# Altium schematic symbol library motionboard.SchLib: 158 symbols (part 2 of 2)
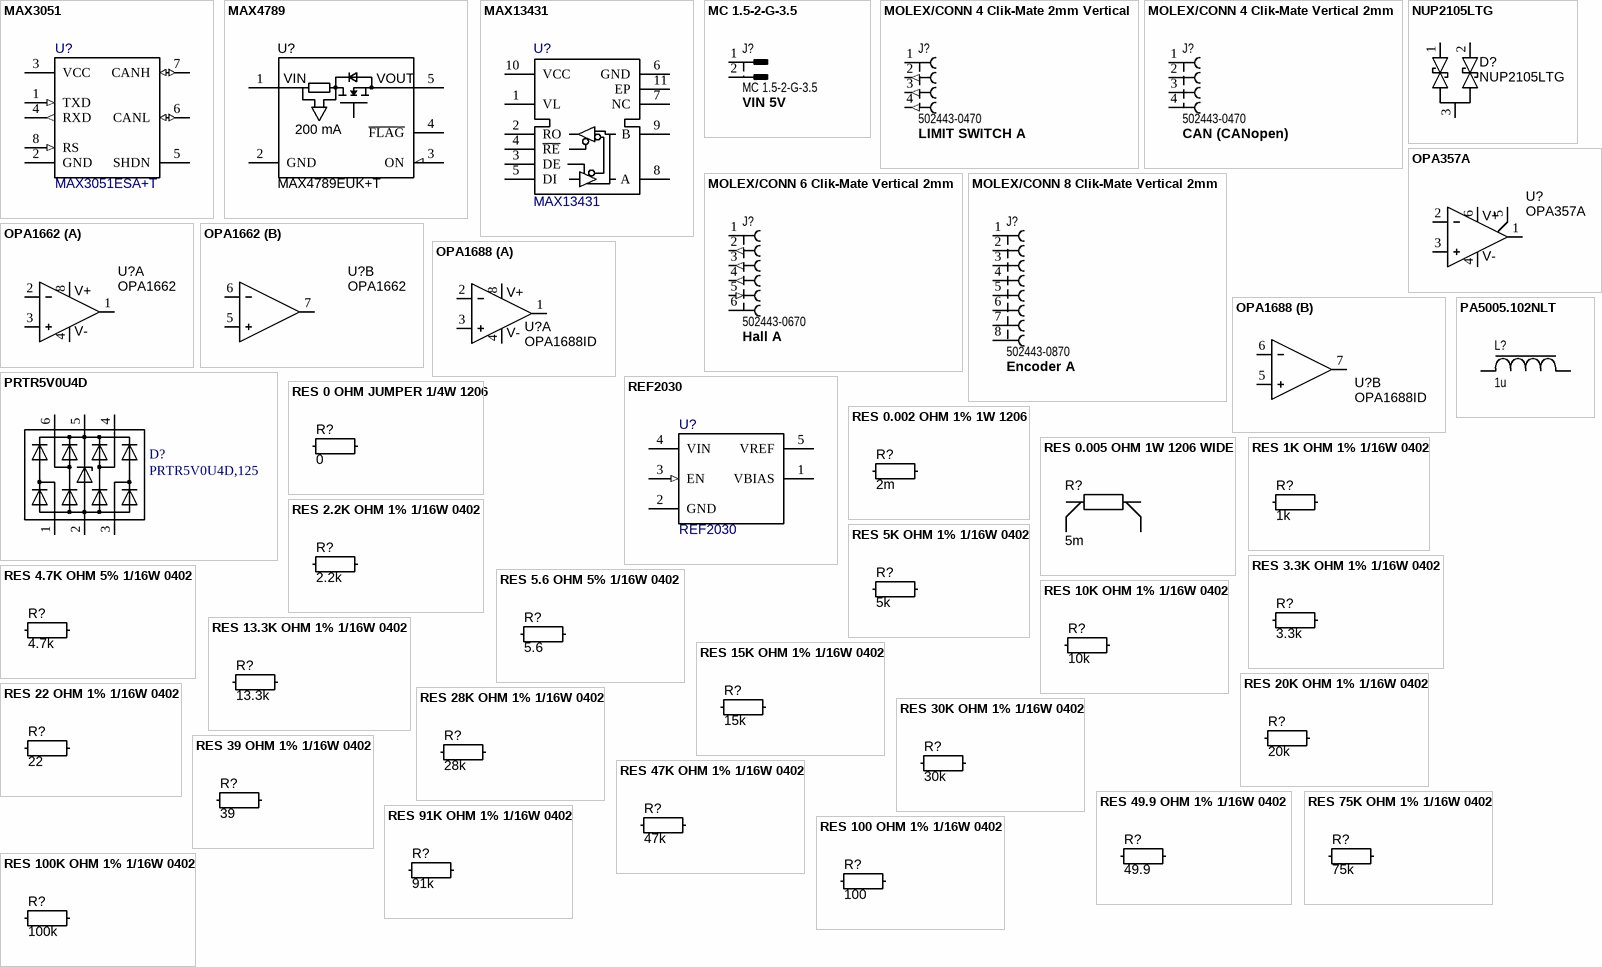
[diagram p7: symbols MAX3051 to RES 100K OHM 1% 1/16W 0402]

## RES 39 OHM 1% 1/16W 0402
designator R?, comment 39
39 Ohms ±1% 0.063W, 1/16W Chip Resistor 0402 (1005 Metric) Moisture Resistant Thick Film; Value: 1k; Supplier 1: Digi-Key; Supplier Part Number 1: 311-1.00KLRCT-ND
simulation model RES (Default semiconductor resistor)
footprint SM/R0402
pins: 1, 2

## RES 47K OHM 1% 1/16W 0402
designator R?, comment 47k
47 kOhms ±1% 0.063W, 1/16W Chip Resistor 0402 (1005 Metric) Moisture Resistant Thick Film; Supplier 1: Digi-Key; Supplier Part Number 1: 311-47.0KLRCT-ND; Value: 47k
simulation model RES (Default semiconductor resistor)
footprint SM/R0402 (Chip Resistor, 2-Leads, Body 1.00x0.50mm, IPC Medium Density)
pins: 1, 2

## RES 49.9 OHM 1% 1/16W 0402
designator R?, comment 49.9
49.9 Ohms ±1% 0.063W, 1/16W Chip Resistor 0402 (1005 Metric) Moisture Resistant Thick Film; Supplier 1: Digi-Key; Supplier Part Number 1: 311-49.9LRCT-ND; Value: 49.9
simulation model RES (Default semiconductor resistor)
footprint SM/R0402 (Chip Resistor, 2-Leads, Body 1.00x0.50mm, IPC Medium Density)
pins: 1, 2

## RES 75K OHM 1% 1/16W 0402
designator R?, comment 75k
75 kOhms ±1% 0.063W, 1/16W Chip Resistor 0402 (1005 Metric) Moisture Resistant Thick Film; Supplier 1: Digi-Key; Supplier Part Number 1: 311-75KLRCT-ND; Value: 75k
simulation model RES (Default semiconductor resistor)
footprint SM/R0402 (Chip Resistor, 2-Leads, Body 1.00x0.50mm, IPC Medium Density)
pins: 1, 2

## RES 91K OHM 1% 1/16W 0402
designator R?, comment 91k
91 kOhms ±1% 0.063W, 1/16W Chip Resistor 0402 (1005 Metric) Moisture Resistant Thick Film; Supplier 1: Digi-Key; Supplier Part Number 1: 311-91.0KLRCT-ND; Value: 91k
simulation model RES (Default semiconductor resistor)
footprint SM/R0402 (Chip Resistor, 2-Leads, Body 1.00x0.50mm, IPC Medium Density)
pins: 1, 2

## RES 100 OHM 1% 1/16W 0402
designator R?, comment 100
100 Ohms ±1% 0.063W, 1/16W Chip Resistor 0402 (1005 Metric) Moisture Resistant Thick Film; Supplier 1: Digi-Key; Supplier Part Number 1: 13-RC0402FR-13100RLCT-ND; Value: 100
simulation model RES (Default semiconductor resistor)
footprint SM/R0402 (Chip Resistor, 2-Leads, Body 1.00x0.50mm, IPC Medium Density)
pins: 1, 2

## RES 100K OHM 1% 1/16W 0402
designator R?, comment 100k
100 kOhms ±1% 0.063W, 1/16W Chip Resistor 0402 (1005 Metric) Moisture Resistant Thick Film; Supplier 1: Digi-Key; Supplier Part Number 1: 13-RC0402FR-13100KLCT-ND; Value: 100k
simulation model RES (Default semiconductor resistor)
footprint SM/R0805 (Chip Resistor, Body 2.0x1.3mm, IPC Low Density)
pins: 1, 2

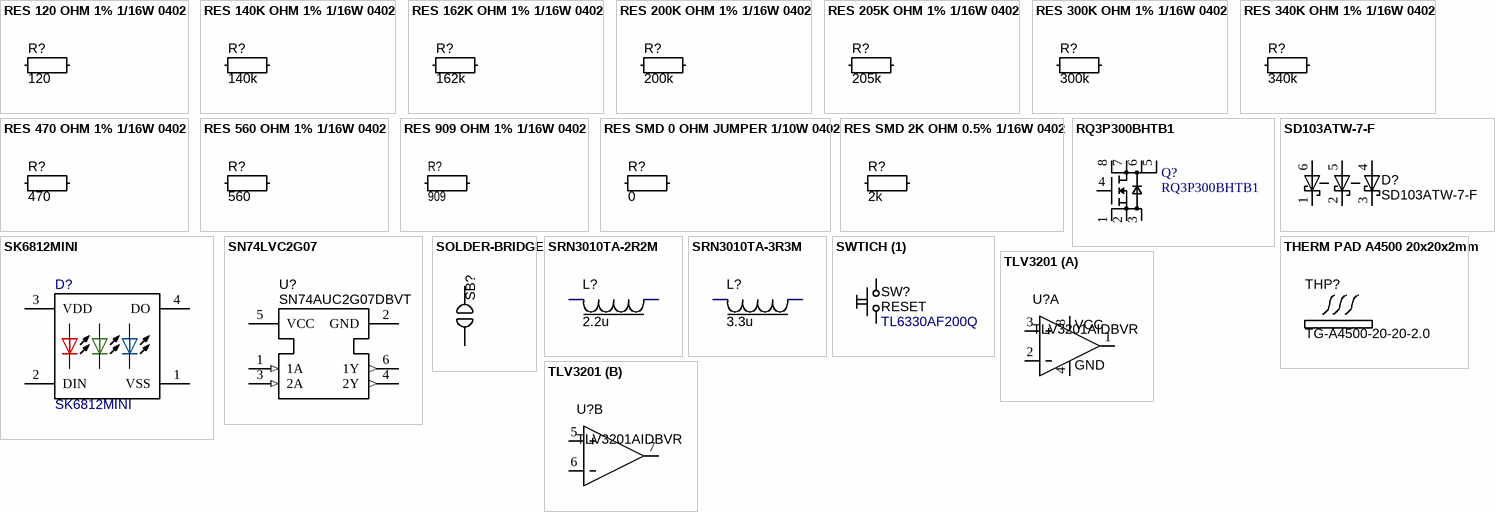
[diagram p4: symbols RES 120 OHM 1% 1/16W 0402 to TLV3201]

## RES 120 OHM 1% 1/16W 0402
designator R?, comment 120
120 Ohms ±1% 0.063W, 1/16W Chip Resistor 0402 (1005 Metric) Moisture Resistant Thick Film; Value: 120; Supplier 1: Digi-Key; Supplier Part Number 1: 311-120LRCT-ND
simulation model RES (Default semiconductor resistor)
footprint SM/R0402 (Chip Resistor, 2-Leads, Body 1.00x0.50mm, IPC Medium Density)
pins: 1, 2

## RES 140K OHM 1% 1/16W 0402
designator R?, comment 140k
140 kOhms ±1% 0.063W, 1/16W Chip Resistor 0402 (1005 Metric) Moisture Resistant Thick Film; Supplier 1: Digi-Key; Supplier Part Number 1: YAG2978CT-ND; Value: 140k
simulation model RES (Default semiconductor resistor)
footprint SM/R0402
pins: 1, 2

## RES 162K OHM 1% 1/16W 0402
designator R?, comment 162k
162 kOhms ±1% 0.063W, 1/16W Chip Resistor 0402 (1005 Metric) Moisture Resistant Thick Film; Value: 162k; Supplier 1: Digi-Key; Supplier Part Number 1: YAG2370CT-ND
simulation model RES (Default semiconductor resistor)
footprint SM/R0402 (Chip Resistor, 2-Leads, Body 1.00x0.50mm, IPC Medium Density)
pins: 1, 2

## RES 200K OHM 1% 1/16W 0402
designator R?, comment 200k
200 kOhms ±1% 0.063W, 1/16W Chip Resistor 0402 (1005 Metric) Moisture Resistant Thick Film; Value: 200k; Supplier 1: Digi-Key; Supplier Part Number 1: 311-200KLRCT-ND
simulation model RES (Default semiconductor resistor)
footprint SM/R0402 (Chip Resistor, 2-Leads, Body 1.00x0.50mm, IPC Medium Density)
pins: 1, 2

## RES 205K OHM 1% 1/16W 0402
designator R?, comment 205k
205 kOhms ±1% 0.063W, 1/16W Chip Resistor 0402 (1005 Metric) Moisture Resistant Thick Film; Value: 205k; Supplier 1: Digi-Key; Supplier Part Number 1: YAG3050CT-ND
simulation model RES (Default semiconductor resistor)
footprint SM/R0402 (Chip Resistor, 2-Leads, Body 1.00x0.50mm, IPC Medium Density)
pins: 1, 2

## RES 300K OHM 1% 1/16W 0402
designator R?, comment 300k
300 kOhms ±1% 0.063W, 1/16W Chip Resistor 0402 (1005 Metric) Moisture Resistant Thick Film; Value: 300k; Supplier 1: Digi-Key; Supplier Part Number 1: 311-300KLRCT-ND
simulation model RES (Default semiconductor resistor)
footprint SM/R0402 (Chip Resistor, 2-Leads, Body 1.00x0.50mm, IPC Medium Density)
pins: 1, 2

## RES 340K OHM 1% 1/16W 0402
designator R?, comment 340k
340 kOhms ±1% 0.063W, 1/16W Chip Resistor 0402 (1005 Metric) Moisture Resistant Thick Film; Value: 340k; Supplier 1: Digi-Key; Supplier Part Number 1: YAG3121CT-ND
simulation model RES (Default semiconductor resistor)
footprint SM/R0402 (Chip Resistor, 2-Leads, Body 1.00x0.50mm, IPC Medium Density)
pins: 1, 2

## RES 470 OHM 1% 1/16W 0402
designator R?, comment 470
470 Ohms ±1% 0.063W, 1/16W Chip Resistor 0402 (1005 Metric) Thick Film; Value: 470; Supplier 1: Digi-Key; Supplier Part Number 1: 13-RC0402FR-13470RLCT-ND
simulation model RES (Default semiconductor resistor)
footprint SM/R0402 (Chip Resistor, 2-Leads, Body 1.00x0.50mm, IPC Medium Density)
pins: 1, 2

## RES 560 OHM 1% 1/16W 0402
designator R?, comment 560
560 Ohms ±1% 0.063W, 1/16W Chip Resistor 0402 (1005 Metric) Thick Film; Value: 560; Supplier 1: Digi-Key; Supplier Part Number 1: 13-RC0402FR-13560RLCT-ND
simulation model RES (Default semiconductor resistor)
footprint SM/R0402 (Chip Resistor, 2-Leads, Body 1.00x0.50mm, IPC Medium Density)
pins: 1, 2

## RES 909 OHM 1% 1/16W 0402
designator R?, comment 909
909 Ohms ±1% 0.063W, 1/16W Chip Resistor 0402 (1005 Metric) Moisture Resistant Thick Film; Supplier 1: Digi-Key; Supplier Part Number 1: YAG3256CT-ND
simulation model RES (Default semiconductor resistor)
footprint SM/R0402 (Chip Resistor, 2-Leads, Body 1.00x0.50mm, IPC Medium Density)
pins: 1, 2

## RES SMD 0 OHM JUMPER 1/10W 0402
designator R?, comment 0
0 Ohms Jumper Chip Resistor 0402 (1005 Metric) Automotive AEC-Q200 Thick Film; Supplier 1: Digi-Key; Supplier Part Number 1: P0.0JCT-ND; Value: 0
simulation model RES (Default semiconductor resistor)
footprint SM/R0603 (Chip Resistor, Body 1.6x0.8mm, IPC Low Density)
footprint SM/R0402
pins: 1, 2

## RES SMD 2K OHM 0.5% 1/16W 0402
designator R?, comment 2k
2 kOhms ±0.5% 0.063W, 1/16W Chip Resistor 0402 (1005 Metric) Thin Film; Supplier 1: Digi-Key; Supplier Part Number 1: RR05P2.0KDCT-ND; Value: 2k
simulation model RES (Default semiconductor resistor)
footprint SM/R0402 (Chip Resistor, 2-Leads, Body 1.00x0.50mm, IPC Medium Density)
pins: 1, 2

## RQ3P300BHTB1
designator Q?
N-Channel 100 V 39A (Ta) 2W (Ta) Surface Mount 8-HSMT (3.2x3); Supplier 1: Digi-Key; Supplier Part Number 1: 846-RQ3P300BHTB1CT-ND
footprint RQ3P300BHTB1 (8-Leads, Body 3.15x3.05mm, Pitch 0.65mm, Thermal Pad 3.00x2.00mm, Manufacturer Guidelines)
pins: 1 S, 2 S, 3 S, 4 G, 5 D, 6 D, 7 D, 8 D

## SD103ATW-7-F
designator D?
DIODE ARRAY SCHOTTKY 40V SOT363 / Diode Array 3 Independent Schottky 40 V 175mA Surface Mount 6-TSSOP, SC-88, SOT-363; Supplier 1: Digi-Key; Supplier Part Number 1: SD103ATW-FDICT-ND
footprint SC70-6 (SOT363, 6-Leads, Body 2x1.3mm, Pitch 0.65mm, Lead Span 2.1mm, IPC Low Density)
pins: 1 K, 2 K, 3 K, 4 A, 5 A, 6 A

## SK6812MINI
designator D?
Addressable Lighting series 10 LED Discrete Serial (Shift Register) Red, Green, Blue (RGB) 3.50mm L x 3.50mm W; Supplier 1: Digi-Key; Supplier Part Number 1: 1528-1542-ND
footprint LED_SK6812
pins: 1 VSS, 2 DIN, 3 VDD, 4 DO

## SN74LVC2G07
designator U?, comment SN74AUC2G07DBVT
Buffer, Non-Inverting 2 Element 1 Bit per Element Open Drain Output SOT-23-6; Supplier 1: Digi-Key; Supplier Part Number 1: 296-SN74AUC2G07DBVTCT-ND
footprint SOT23-6 (SOT23, 6-Leads, Body 3.1x3.2mm (max), Pitch 0.95mm, IPC Medium Density)
pins: 1 1A (in), 2 GND (power), 3 2A (in), 4 2Y (out), 5 VCC (power), 6 1Y (out)

## SOLDER-BRIDGE
designator SB?, comment Solder Bridge  (value not drawn)  (net tie, no BOM)
footprint JUMPER/SB
pins: 1, 2

## SRN3010TA-2R2M
designator L?, comment 2.2u
2.2 µH Semi-Shielded Drum Core, Wirewound Inductor 1.7 A 90mOhm Nonstandard; Isat: 1.3A; Value: 2.2u; Supplier 1: Digi-Key; Supplier Part Number 1: SRN3010TA-2R2MCT-ND
footprint SM/L/SRN3010TA
pins: 1, 2

## SRN3010TA-3R3M
designator L?, comment 3.3u
3.3 µH Semi-Shielded Drum Core, Wirewound Inductor 1.5 A 130mOhm Nonstandard; Isat: 1.1A; Value: 3.3u; Supplier 1: Digi-Key; Supplier Part Number 1: SRN3010TA-3R3MCT-ND
footprint SM/L/SRN3010TA
pins: 1, 2

## SWTICH (1)
designator SW?, comment RESET  value TL6330AF200Q
Supplier 1: Digi-Key; Supplier Part Number 1: EG5546CT-ND
footprint PB TL6330
pins: 1, 2

## THERM PAD A4500 20x20x2mm
designator THP?, comment TG-A4500-20-20-2.0  (mechanical)
Thermal Pad Purple 20.00mm x 20.00mm Square Tacky - Both Sides; Supplier 1: Digi-Key; Supplier Part Number 1: 1168-TG-A4500-20-20-2.0-ND

## TLV3201
designator U?, comment TLV3201AIDBVR
Comparator General Purpose Push-Pull SOT-23-5 / IC COMPARATOR RRI SGL SOT23-5; Supplier 1: Digi-Key; Supplier Part Number 1: 296-36750-1-ND
part A pins: 1 OUT, 2 IN-, 3 IN+, 4 GND, 8 V+
part B pins: 5 IN+, 6 IN-, 7 OUT
1 alternate drawing of the same symbol
part A text: VCC

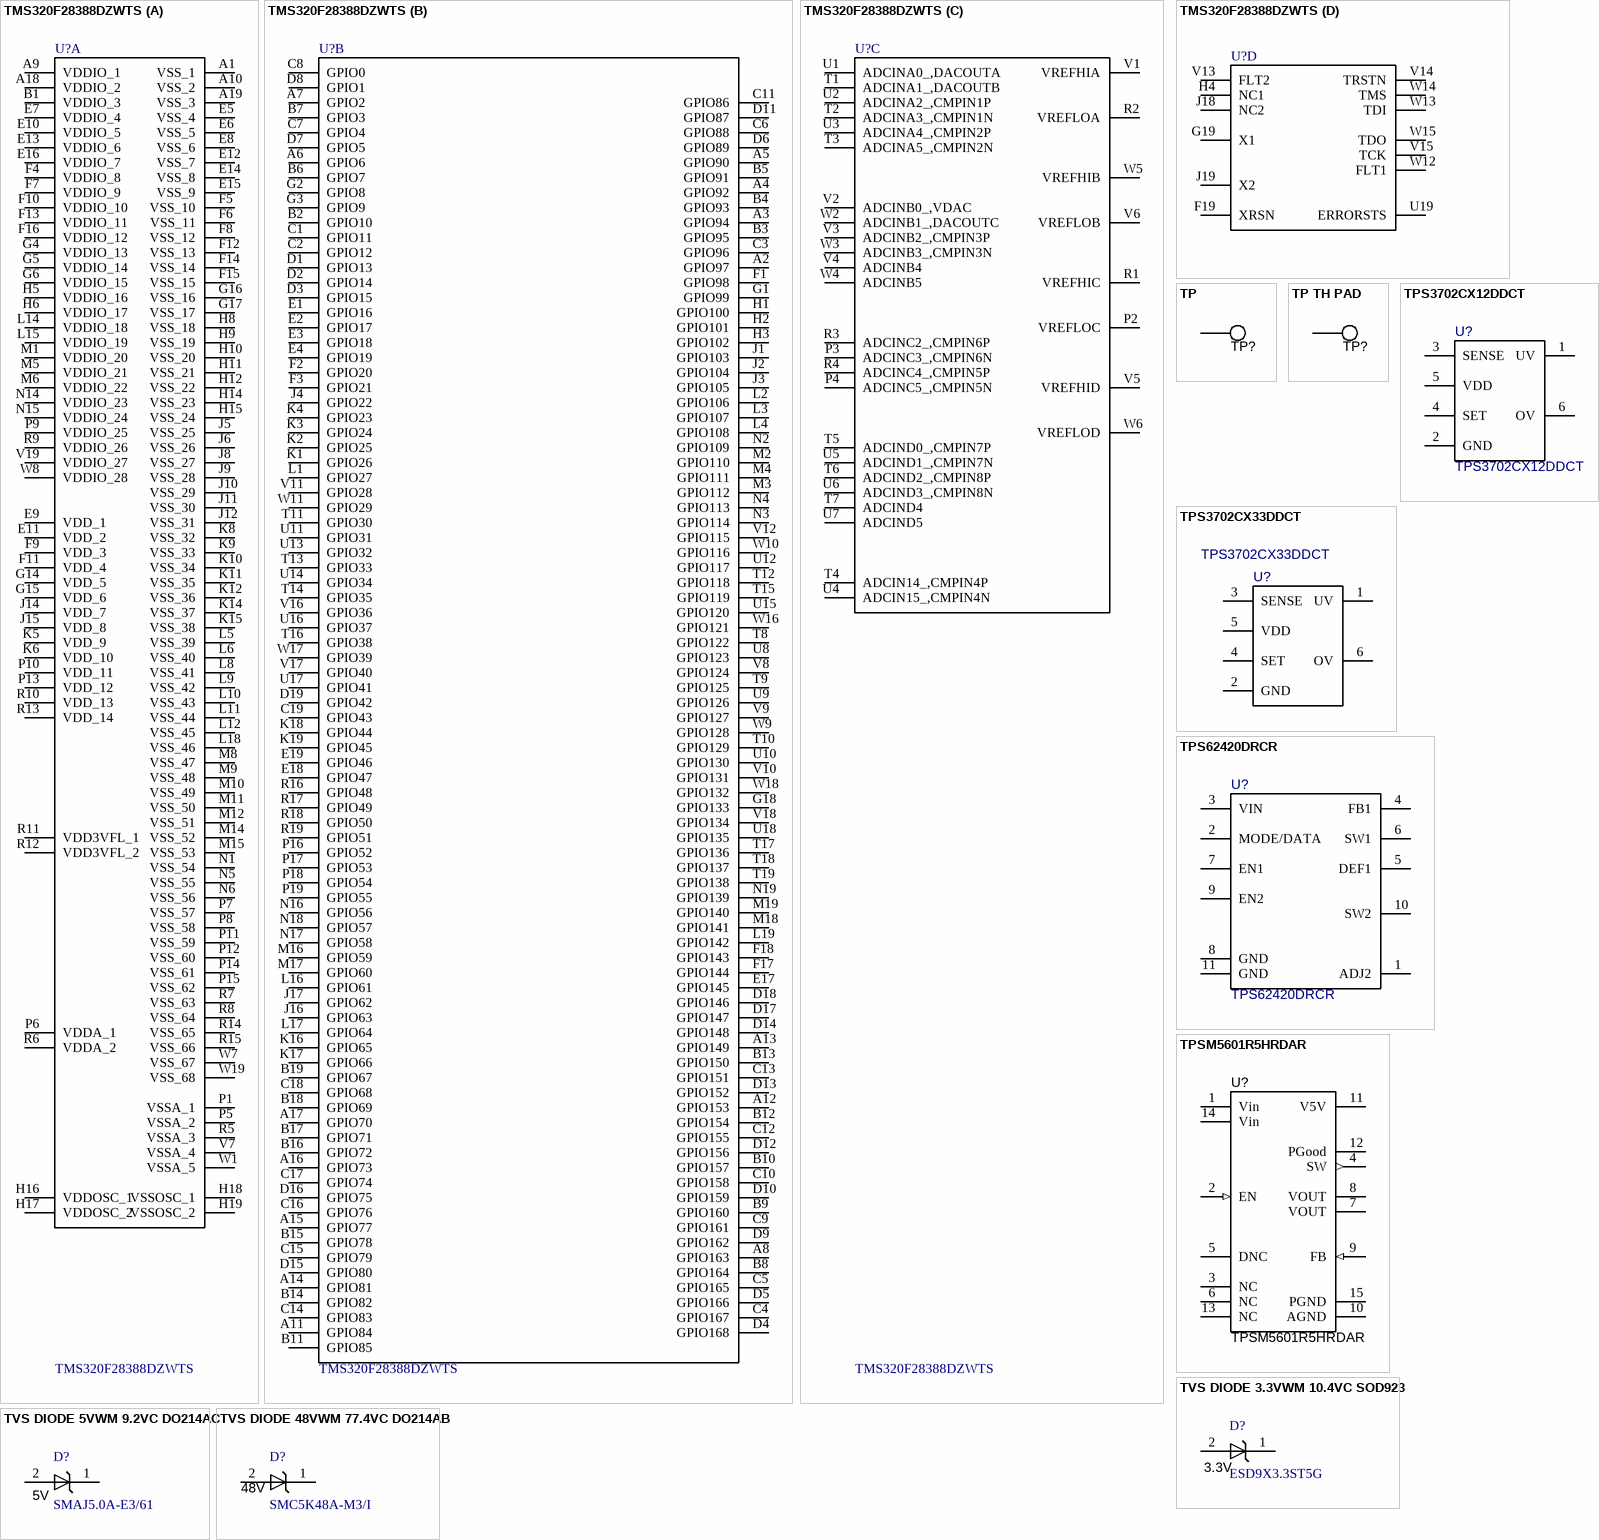
[diagram p5: symbols TMS320F28388DZWTS to TVS DIODE 48VWM 77.4VC DO214AB]

## TMS320F28388DZWTS
designator U?
C28x C2000™ C28x Fixed-Point Microcontroller IC 32-Bit Dual-Core 200MHz 512KB (256K x 16) FLASH 337-NFBGA (16x16); Manufacturer: Texas Instruments; Datasheet Link: http://www.ti.com/lit/ds/symlink/tms320f28388d.pdf; Height: 1.4mm; Supplier 1: Mouser; Supplier Part Number 1: 595-F28388DZWTS; Manufacturer Part Number: F28388DZWTS
footprint BGA337C80P19X19_1600X1600X140
part A pins: A1 VSS_1, A9 VDDIO_1, A10 VSS_2, A18 VDDIO_2, A19 VSS_3, B1 VDDIO_3, E5 VSS_4, E6 VSS_5, E7 VDDIO_4, E8 VSS_6, E9 VDD_1, E10 VDDIO_5, E11 VDD_2, E12 VSS_7, E13 VDDIO_6, E14 VSS_8, E15 VSS_9, E16 VDDIO_7, F4 VDDIO_8, F5 VSS_10, F6 VSS_11, F7 VDDIO_9, F8 VSS_12, F9 VDD_3, F10 VDDIO_10, F11 VDD_4, F12 VSS_13, F13 VDDIO_11, F14 VSS_14, F15 VSS_15, F16 VDDIO_12, G4 VDDIO_13, G5 VDDIO_14, G6 VDDIO_15, G14 VDD_5, G15 VDD_6, G16 VSS_16, G17 VSS_17, H5 VDDIO_16, H6 VDDIO_17, H8 VSS_18, H9 VSS_19, H10 VSS_20, H11 VSS_21, H12 VSS_22, H14 VSS_23, H15 VSS_24, H16 VDDOSC_1, H17 VDDOSC_2, H18 VSSOSC_1, H19 VSSOSC_2, J5 VSS_25, J6 VSS_26, J8 VSS_27, J9 VSS_28, J10 VSS_29, J11 VSS_30, J12 VSS_31, J14 VDD_7, J15 VDD_8, K5 VDD_9, K6 VDD_10, K8 VSS_32, K9 VSS_33, K10 VSS_34, K11 VSS_35, K12 VSS_36, K14 VSS_37, K15 VSS_38, L5 VSS_39, L6 VSS_40, L8 VSS_41, L9 VSS_42, L10 VSS_43, L11 VSS_44, L12 VSS_45, L14 VDDIO_18, L15 VDDIO_19, L18 VSS_46, M1 VDDIO_20, M5 VDDIO_21, M6 VDDIO_22, M8 VSS_47, M9 VSS_48, M10 VSS_49, M11 VSS_50, M12 VSS_51, M14 VSS_52, M15 VSS_53, N1 VSS_54, N5 VSS_55, N6 VSS_56, N14 VDDIO_23, N15 VDDIO_24, P1 VSSA_1, P5 VSSA_2, P6 VDDA_1, P7 VSS_57, P8 VSS_58, P9 VDDIO_25, P10 VDD_11, P11 VSS_59, P12 VSS_60, P13 VDD_12, P14 VSS_61, P15 VSS_62, R5 VSSA_3, R6 VDDA_2, R7 VSS_63, R8 VSS_64, R9 VDDIO_26, R10 VDD_13, R11 VDD3VFL_1, R12 VDD3VFL_2, R13 VDD_14, R14 VSS_65, R15 VSS_66, V7 VSSA_4, V19 VDDIO_27, W1 VSSA_5, W7 VSS_67, W8 VDDIO_28, W19 VSS_68
part B pins: A2 GPIO97, A3 GPIO94, A4 GPIO92, A5 GPIO90, A6 GPIO6, A7 GPIO2, A8 GPIO163, A11 GPIO84, A12 GPIO153, A13 GPIO149, A14 GPIO81, A15 GPIO77, A16 GPIO73, A17 GPIO70, B2 GPIO10, B3 GPIO95, B4 GPIO93, B5 GPIO91, B6 GPIO7, B7 GPIO3, B8 GPIO164, B9 GPIO160, B10 GPIO157, B11 GPIO85, B12 GPIO154, B13 GPIO150, B14 GPIO82, B15 GPIO78, B16 GPIO72, B17 GPIO71, B18 GPIO69, B19 GPIO67, C1 GPIO11, C2 GPIO12, C3 GPIO96, C4 GPIO167, C5 GPIO165, C6 GPIO88, C7 GPIO4, C8 GPIO0, C9 GPIO161, C10 GPIO158, C11 GPIO86, C12 GPIO155, C13 GPIO151, C14 GPIO83, C15 GPIO79, C16 GPIO76, C17 GPIO74, C18 GPIO68, C19 GPIO43, D1 GPIO13, D2 GPIO14, D3 GPIO15, D4 GPIO168, D5 GPIO166, D6 GPIO89, D7 GPIO5, D8 GPIO1, D9 GPIO162, D10 GPIO159, D11 GPIO87, D12 GPIO156, D13 GPIO152, D14 GPIO148, D15 GPIO80, D16 GPIO75, D17 GPIO147, D18 GPIO146, D19 GPIO42, E1 GPIO16, E2 GPIO17, E3 GPIO18, E4 GPIO19, E17 GPIO145, E18 GPIO47, E19 GPIO46, F1 GPIO98, F2 GPIO20, F3 GPIO21, F17 GPIO144, F18 GPIO143, G1 GPIO99, G2 GPIO8, G3 GPIO9, G18 GPIO133, H1 GPIO100, H2 GPIO101, H3 GPIO102, J1 GPIO103, J2 GPIO104, J3 GPIO105, J4 GPIO22, J16 GPIO63, J17 GPIO62, K1 GPIO26, K2 GPIO25, K3 GPIO24, K4 GPIO23, K16 GPIO65, K17 GPIO66, K18 GPIO44, K19 GPIO45, L1 GPIO27, L2 GPIO106, L3 GPIO107, L4 GPIO108, L16 GPIO61, L17 GPIO64, L19 GPIO142, M2 GPIO110, M3 GPIO112, M4 GPIO111, M16 GPIO59, M17 GPIO60, M18 GPIO141, M19 GPIO140, N2 GPIO109, N3 GPIO114, N4 GPIO113, N16 GPIO56, N17 GPIO58, N18 GPIO57, N19 GPIO139, P16 GPIO52, P17 GPIO53, P18 GPIO54, P19 GPIO55, R16 GPIO48, R17 GPIO49, R18 GPIO50, R19 GPIO51, T8 GPIO122, T9 GPIO125, T10 GPIO129, T11 GPIO30, T12 GPIO118, T13 GPIO33, T14 GPIO35, T15 GPIO119, T16 GPIO38, T17 GPIO136, T18 GPIO137, T19 GPIO138, U8 GPIO123, U9 GPIO126, U10 GPIO130, U11 GPIO31, U12 GPIO117, U13 GPIO32, U14 GPIO34, U15 GPIO120, U16 GPIO37, U17 GPIO41, U18 GPIO135, V8 GPIO124, V9 GPIO127, V10 GPIO131, V11 GPIO28, V12 GPIO115, V16 GPIO36, V17 GPIO40, V18 GPIO134, W9 GPIO128, W10 GPIO116, W11 GPIO29, W16 GPIO121, W17 GPIO39, W18 GPIO132
part C pins: P2 VREFLOC, P3 ADCINC3_,CMPIN6N, P4 ADCINC5_,CMPIN5N, R1 VREFHIC, R2 VREFLOA, R3 ADCINC2_,CMPIN6P, R4 ADCINC4_,CMPIN5P, T1 ADCINA1_,DACOUTB, T2 ADCINA3_,CMPIN1N, T3 ADCINA5_,CMPIN2N, T4 ADCIN14_,CMPIN4P, T5 ADCIND0_,CMPIN7P, T6 ADCIND2_,CMPIN8P, T7 ADCIND4, U1 ADCINA0_,DACOUTA, U2 ADCINA2_,CMPIN1P, U3 ADCINA4_,CMPIN2P, U4 ADCIN15_,CMPIN4N, U5 ADCIND1_,CMPIN7N, U6 ADCIND3_,CMPIN8N, U7 ADCIND5, V1 VREFHIA, V2 ADCINB0_,VDAC, V3 ADCINB2_,CMPIN3P, V4 ADCINB4, V5 VREFHID, V6 VREFLOB, W2 ADCINB1_,DACOUTC, W3 ADCINB3_,CMPIN3N, W4 ADCINB5, W5 VREFHIB, W6 VREFLOD
part D pins: F19 XRSN, G19 X1, H4 NC1, J18 NC2, J19 X2, U19 ERRORSTS, V13 FLT2, V14 TRSTN, V15 TCK, W12 FLT1, W13 TDI, W14 TMS, W15 TDO

## TP
designator TP?, comment RCUCTE  (value not drawn)
PC Test Point Plating Surface Mount Mounting Type; Supplier 1: Digi-Key; Supplier Part Number 1: 2019-RCUCTECT-ND
footprint TP/RCUCT
pins: 1

## TP TH PAD
designator TP?, comment TP  (value not drawn)  (no BOM)
Through hole test point pad
footprint TP/SMALL
pins: 1

## TPS3702CX12DDCT
designator U?
Supervisor Open Drain or Open Collector 1 Channel SOT-23-THIN; Supplier 1: Digi-Key; Supplier Part Number 1: 296-42074-1-ND
footprint SOT23-6 (SOT23, 6-Leads, Body 3.1x3.2mm (max), Pitch 0.95mm, IPC Medium Density)
pins: 1 UV, 2 GND, 3 SENSE, 4 SET, 5 VDD, 6 OV

## TPS3702CX33DDCT
designator U?
Supervisor Open Drain or Open Collector 1 Channel SOT-23-THIN; Supplier 1: Digi-Key; Supplier Part Number 1: 296-39651-1-ND
footprint SOT23-6 (SOT23, 6-Leads, Body 3.1x3.2mm (max), Pitch 0.95mm, IPC Medium Density)
pins: 1 UV, 2 GND, 3 SENSE, 4 SET, 5 VDD, 6 OV

## TPS62420DRCR
designator U?
Supplier 1: Digi-Key; Supplier Part Number 1: 296-25650-6-ND
footprint IC_TPS62420DRCR
pins: 1 ADJ2, 2 MODE/DATA, 3 VIN, 4 FB1, 5 DEF1, 6 SW1, 7 EN1, 8 GND, 9 EN2, 10 SW2, 11 GND

## TPSM5601R5HRDAR
designator U?
Non-Isolated PoL Module DC DC Converter 1 Output 1 ~ 16V 1.5A 4.2V - 60V Input; Supplier 1: Digi-Key; Supplier Part Number 1: 296-TPSM5601R5HRDARCT-ND
footprint TPSM5601R5Hx (TPSM5601R5Hx series QFN, 14-Leads, Body 5.00x5.50mm, Pitch 0.65mm, Thermal Pad 2.50x4.60mm, Manufacturer Guidelines)
pins: 1 Vin (power), 2 EN (in) "Enable pin. Do not float.", 3 NC, 4 SW (out) "Switch node. Do not place any external component on this pin or connect to any signal.", 5 DNC "Do not connect. Do not connect this pin to ground, to another pin, or to any other voltage. This pin is", 6 NC, 7 VOUT (power) "Output voltage. These pins are connected to the internal output inductor. Connect these pins to the", 8 VOUT (power) "Output voltage. These pins are connected to the internal output inductor. Connect these pins to the", 9 FB (in) "Feedback input. Connect the mid-point of the feedback resistor divider to this pin", 10 AGND (power), 11 V5V (power) "Internal 5-V LDO output.", 12 PGood (oc) "Power-good pin. Open-drain output that asserts low if the feedback voltage is not within the specified.", 13 NC, 14 Vin (power), 15 PGND (power) "Power ground. This is the return current path for the power stage of the device."

## TVS DIODE 3.3VWM 10.4VC SOD923
designator D?, comment ESD9X3.3ST5G  Reverse Standoff Voltage: 3.3V
10.4V Clamp 9.8A (8/20µs) Ipp Tvs Diode Surface Mount SOD-923; Mounting: SMD; Supplier 1: Digi-Key; Supplier Part Number 1: ESD9X3.3ST5GOSCT-ND; Supplier 2: Mouser; Supplier Part Number 2: 863-ESD9X3.3ST5G; Max Clamping Voltage: 10.4V
footprint SODFL100X40-2N (SODFL, 2-Leads, Body 0.60x1.00mm, IPC Medium Density)
pins: 1 K, 2 A

## TVS DIODE 5VWM 9.2VC DO214AC
designator D?, comment SMAJ5.0A-E3/61  Reverse Standoff Voltage: 5V
9.2V Clamp 43.5A Ipp Tvs Diode Surface Mount DO-214AC (SMA); Mounting: SMD; Supplier 1: Digi-Key; Supplier Part Number 1: SMAJ5.0A-E3/61GICT-ND; Max Clamping Voltage: 9.2V
footprint DIOM4226X23N (Molded Diode, 2-Leads, Body 4.20x2.65mm, IPC Medium Density)
pins: 1 K, 2 A

## TVS DIODE 48VWM 77.4VC DO214AB
designator D?, comment SMC5K48A-M3/I  Reverse Standoff Voltage: 48V
77.4V Clamp 64.6A Ipp Tvs Diode Surface Mount DO-214AB (SMC); Mounting: SMD; Supplier 1: Digi-Key; Supplier Part Number 1: SMC5K48A-M3/IGICT-ND; Max Clamping Voltage: 77.4V
footprint DIOM8059X26N (Molded Diode, 2-Leads, Body 7.95x5.93mm, IPC Medium Density)
pins: 1 K, 2 A

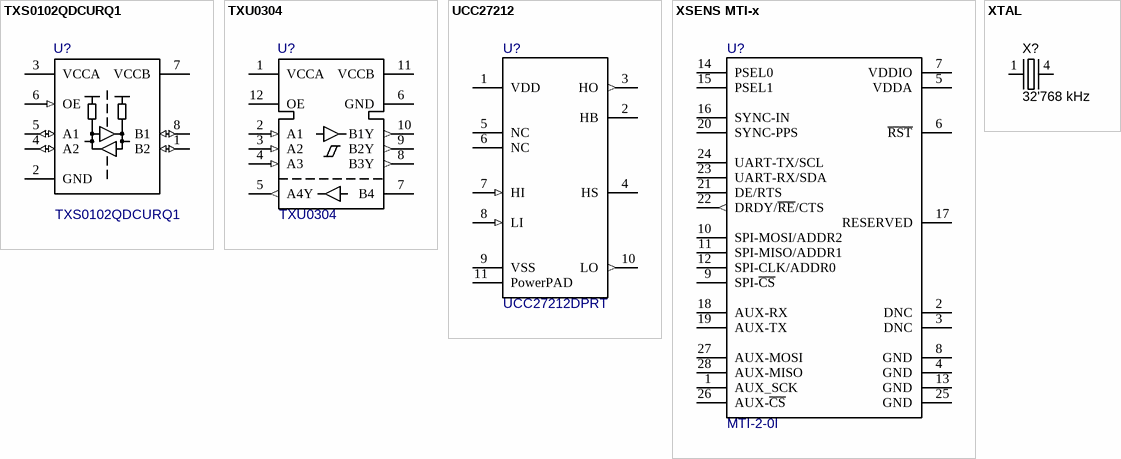
[diagram p6: symbols TXS0102QDCURQ1 to XTAL]

## TXS0102QDCURQ1
designator U?
Voltage Level Translator Bidirectional 1 Circuit 2 Channel 24Mbps 8-VSSOP; Supplier 1: Digi-Key; Supplier Part Number 1: 296-37938-1-ND
footprint TSSOP50P310X90-8N (TSSOP, 8-Leads, Body 2.00x2.30mm, Pitch 0.50mm, IPC Medium Density)
pins: 1 B2 (io) "Input/output B2. Referenced to VCCB.", 2 GND (power), 3 VCCA (power) "A-port supply voltage. 1.65 V ≤ VCCA ≤ 3.6 V and VCCA ≤ VCCB", 4 A2 (io) "Input/output A2. Referenced to VCCA.", 5 A1 (io) "Input/output A1. Referenced to VCCA.", 6 OE (in) "Pull OE low to place all outputs in 3-state mode", 7 VCCB (power) "B-port supply voltage. 2.3 V ≤ VCCB ≤ 5.5 V.", 8 B1 (io) "Input/output B1. Referenced to VCCB."

## TXU0304
designator U?
FOUR CHANNEL UNIDIRECTIONAL LEVE / Voltage Level Translator Unidirectional 1 Circuit 4 Channel 200Mbps 12-UQFN (1.7x2); MP: TXB0104RGYR; Package: None; Price: None; Value: *; Availability: Unavailable; Supplier 1: Digi-Key; Supplier Part Number 1: 296-TXU0304RUTRCT-ND
footprint QFN40P170X200X55-12N
pins: 1 VCCA (power), 2 A1 (in), 3 A2 (in), 4 A3 (in), 5 A4Y (out), 6 GND (power), 7 B4, 8 B3Y (out), 9 B2Y (out), 10 B1Y (out), 11 VCCB (power), 12 OE

## UCC27212
designator U?, comment UCC27212DPRT
Half-Bridge Gate Driver IC Non-Inverting 10-WSON (4x4); Supplier 1: Digi-Key; Supplier Part Number 1: 296-47091-1-ND
footprint PSON80P400X80_HS-11N (PSON, 10-Leads, Body 4.00x4.00mm, Pitch 0.80mm, Thermal Pad 3.00x2.60mm, IPC Medium Density)
pins: 1 VDD (power) "Positive supply to the lower-gate driver", 2 HB (power) "High-side bootstrap supply.", 3 HO (out) "High-side output. Connect to the gate of the high-side power MOSFET.", 4 HS (power) "High-side source connection. Connect to source of high-side power MOSFET. Connect the", 5 NC "No internal connection", 6 NC "No internal connection", 7 HI (in) "High-side input", 8 LI (in) "Low-side input", 9 VSS (power) "Negative supply terminal for the device which is generally grounded", 10 LO (out) "Low-side output. Connect to the gate of the low-side power MOSFET", 11 PowerPAD (power) "Connect to a large thermal mass trace or GND plane to dramatically improve thermal"

## XSENS MTI-x
designator U?, comment MTI-2-0I
Accelerometer, Gyroscope, Magnetometer, 9 Axis Sensor I²C, SPI, UART Output / 1551-MTI-2-0I-ND; Supplier 1: Digi-Key; Supplier Part Number 1: 1551-MTI-2-0I-ND
footprint MTi-1_PLCC_28P (MTi-1-series PLCC board)
pins: 1 AUX_SCK, 2 DNC, 3 DNC, 4 GND, 5 VDDA, 6 ~{RST}, 7 VDDIO, 8 GND, 9 SPI-~{CS}, 10 SPI-MOSI/ADDR2, 11 SPI-MISO/ADDR1, 12 SPI-CLK/ADDR0, 13 GND, 14 PSEL0, 15 PSEL1, 16 SYNC-IN, 17 RESERVED, 18 AUX-RX, 19 AUX-TX, 20 SYNC-PPS, 21 DE/RTS, 22 DRDY/~{RE}/CTS (out), 23 UART-RX/SDA, 24 UART-TX/SCL, 25 GND, 26 AUX-~{CS}, 27 AUX-MOSI, 28 AUX-MISO

## XTAL
designator X?, comment 32'768 kHz
CM200C32768HZFT; Supplier 1: Digi-Key; Supplier Part Number 1: 300-8742-1-ND
footprint CRYSTAL/SMD/ABS25
pins: 1, 4